# Altium footprint library Reg LDO.PcbLib: 29 footprints (part 1 of 2)
Each footprint in its own frame and in the unit in brackets; x right, y up, seen from the top. Pads: shape width x height; smd on the part's side, far side on the other; paste and mask are expansions set on the pad; w line width, h text height; cw(c..) or ccw(c..) is an arc to the next point about the centre after c.
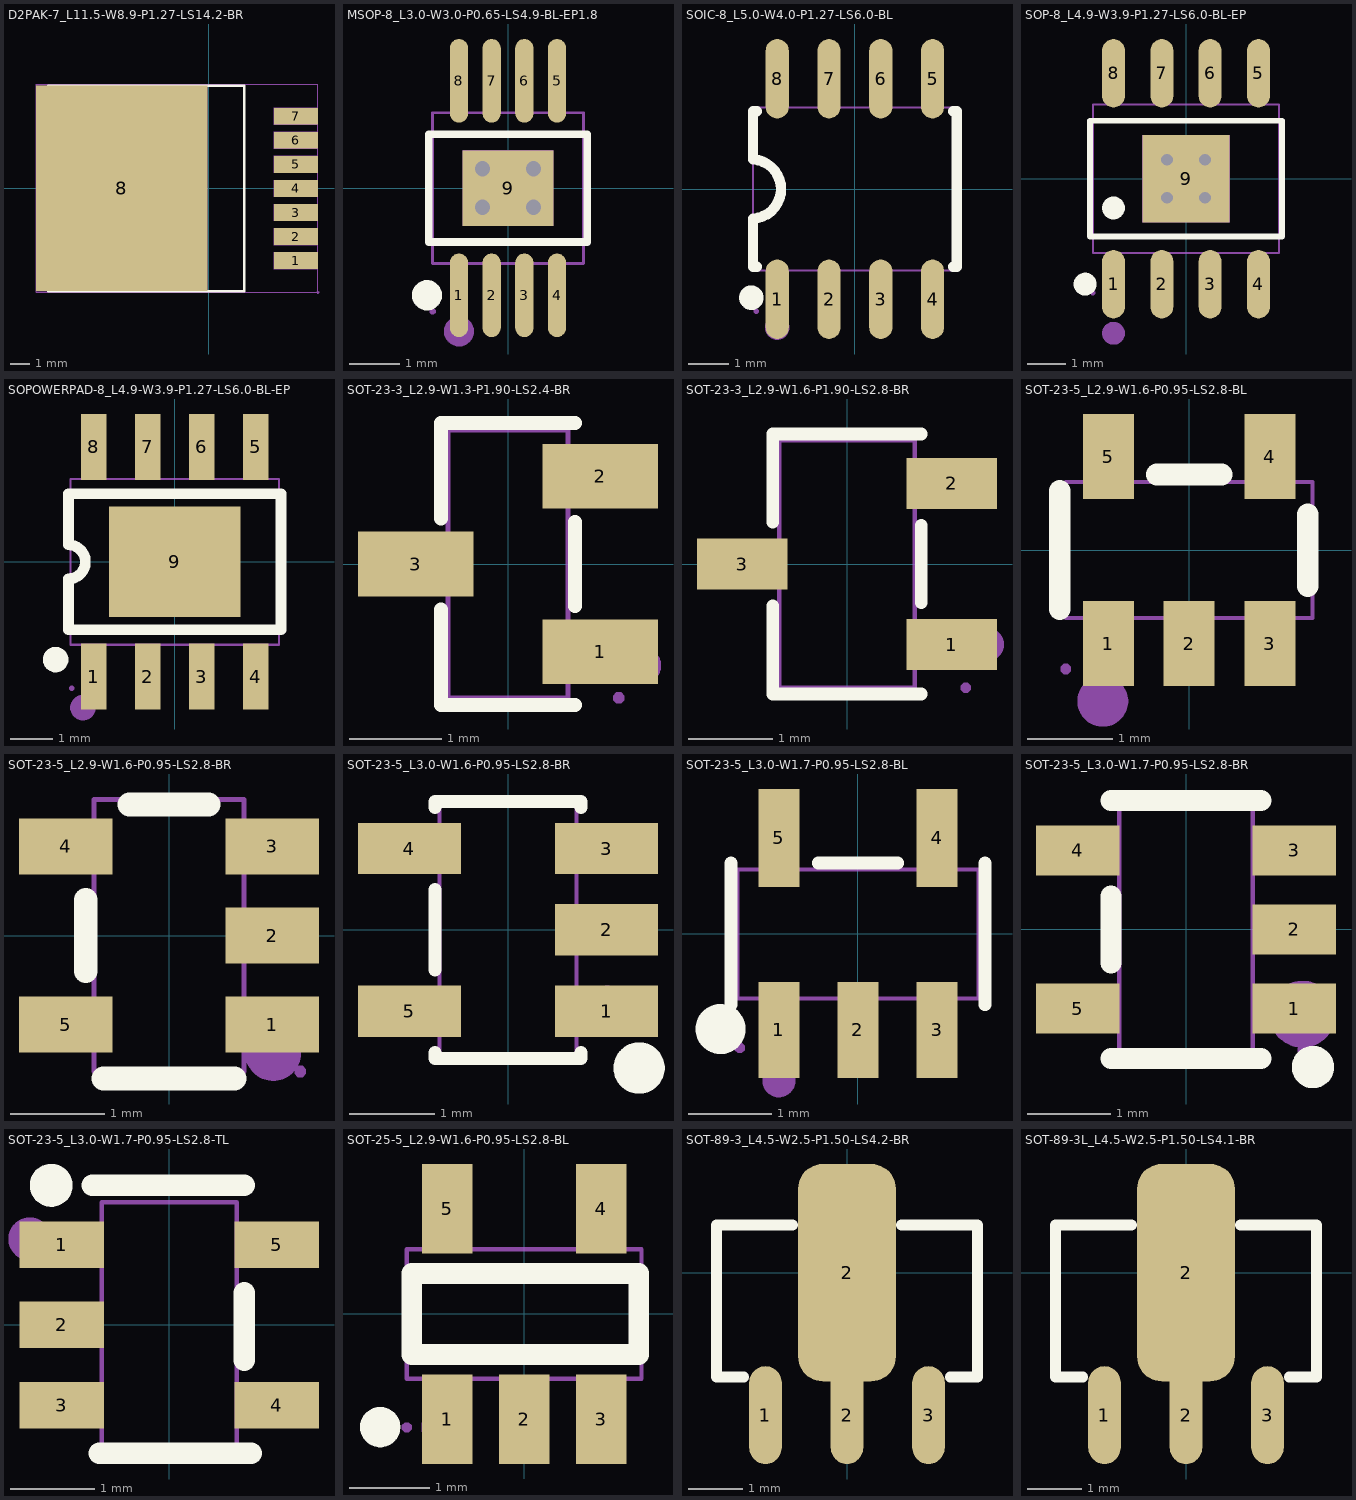
[diagram p0: the footprints below, top view; thin cyan lines are the x and y axes]

## D2PAK-7_L11.5-W8.9-P1.27-LS14.2-BR [mil]
pads (8):
  rect 91.4x35 smd paste+0 mask+2: 1(180.75,-150) 2(180.75,-100) 3(180.75,-50) 4(180.75,0) 5(180.75,50) 6(180.75,100) 7(180.75,150)
  rect 355.6x426.7 smd paste+0 mask+2: 8(-180.75,0)
Top Overlay:
  lines w5.08: -333.15,-213.4 73.25,-213.4 73.25,213.4 -333.15,213.4
Mechanical 15:
  region: 228.81,-215.94 228.81,-214.96 227.43,-213.58 225.47,-213.58 224.09,-214.96 224.09,-215.94 224.09,-216.92 225.47,-218.3 227.43,-218.3 228.81,-216.92 228.81,-215.94
  region: 135.05,-117.5 135.05,-82.5 226.45,-82.5 226.45,-117.5
  region: -358.55,-213.35 -358.55,213.35 -2.95,213.35 -2.95,-213.35
  region: 135.05,-17.5 135.05,17.5 226.45,17.5 226.45,-17.5
  region: 135.05,-67.5 135.05,-32.5 226.45,-32.5 226.45,-67.5
  region: 135.05,32.5 135.05,67.5 226.45,67.5 226.45,32.5
  region: 135.05,82.5 135.05,117.5 226.45,117.5 226.45,82.5
  region: 135.05,132.5 135.05,167.5 226.45,167.5 226.45,132.5
  region: 135.05,-167.5 135.05,-132.5 226.45,-132.5 226.45,-167.5
  lines w2: -358.55,-215.94 226.45,-215.94 226.45,215.94 -358.55,215.94 -358.55,-215.94

## MSOP-8_L3.0-W3.0-P0.65-LS4.9-BL-EP1.8 [mm]
pads (9):
  oval 0.364x1.662 smd paste+0 mask+0.051: 1(-0.975,-2.131) 2(-0.325,-2.131) 3(0.325,-2.131) 4(0.975,-2.131) 5(0.975,2.131) 6(0.325,2.131) 7(-0.325,2.131) 8(-0.975,2.131)
  rect 1.8x1.5 smd paste+0 mask+0.051: 9(0,0)
via 0.508,-0.381 diameter 0.61 hole 0.305
via -0.508,-0.381 diameter 0.61 hole 0.305
via 0.508,0.381 diameter 0.61 hole 0.305
via -0.508,0.381 diameter 0.61 hole 0.305
Top Overlay:
  circle w0.3: c-1.609,-2.131 r0.15
  lines w0.152: -1.576,-1.071 -1.576,1.071 1.576,1.071 1.576,-1.071 -1.576,-1.071
Mechanical 6:
  circle w0.3: c-0.975,-2.85 r0.15
Mechanical 15:
  region: -1.44,-2.45 -1.44,-2.425 -1.475,-2.39 -1.525,-2.39 -1.56,-2.425 -1.56,-2.45 -1.56,-2.475 -1.525,-2.51 -1.475,-2.51 -1.44,-2.475 -1.44,-2.45
  region: -1.133,-2.45 -1.133,-1.9 -0.818,-1.9 -0.818,-2.45
  region: -1.133,-1.91 -1.133,-1.49 -0.818,-1.49 -0.818,-1.91
  region: -0.482,-2.45 -0.482,-1.9 -0.167,-1.9 -0.167,-2.45
  region: -0.482,-1.91 -0.482,-1.49 -0.167,-1.49 -0.167,-1.91
  region: 0.168,-2.45 0.168,-1.9 0.483,-1.9 0.483,-2.45
  region: 0.168,-1.91 0.168,-1.49 0.483,-1.49 0.483,-1.91
  region: 0.818,-2.45 0.818,-1.9 1.133,-1.9 1.133,-2.45
  region: 0.818,-1.91 0.818,-1.49 1.133,-1.49 1.133,-1.91
  region: -1.133,1.9 -1.133,2.45 -0.818,2.45 -0.818,1.9
  region: -1.133,1.49 -1.133,1.91 -0.818,1.91 -0.818,1.49
  region: -0.482,1.9 -0.482,2.45 -0.167,2.45 -0.167,1.9
  region: -0.482,1.49 -0.482,1.91 -0.167,1.91 -0.167,1.49
  region: 0.168,1.9 0.168,2.45 0.483,2.45 0.483,1.9
  region: 0.168,1.49 0.168,1.91 0.483,1.91 0.483,1.49
  region: 0.818,1.9 0.818,2.45 1.133,2.45 1.133,1.9
  region: 0.818,1.49 0.818,1.91 1.133,1.91 1.133,1.49
  region: -0.9,-0.75 -0.9,0.75 0.9,0.75 0.9,-0.75
  lines w0.051: -1.5,-1.5 -1.5,1.5 1.5,1.5 1.5,-1.5 -1.5,-1.5

## SOIC-8_L5.0-W4.0-P1.27-LS6.0-BL [mil]
pads (8):
  oval 22.38x76.78 smd paste+0 mask+2: 1(-75,-106.5) 2(-25,-106.5) 3(25,-106.5) 4(75,-106.5) 5(75,106.5) 6(25,106.5) 7(-25,106.5) 8(-75,106.5)
Top Overlay:
  circle w11.81: c-100,-105 r5.91
  lines w10: -98.43,-28.61 ccw(c-99.99,0) -98.23,28.59 ; -98.42,-28.61 -98.42,-59.05 -98.42,-75 -94.83,-75 ; -98.42,28.59 -98.42,59.05 -98.42,75 -94.83,75 ; 94.83,-75 98.42,-75 98.42,-59.05 98.42,59.05 98.42,75 94.83,75
Mechanical 6:
  circle w11.81: c-75,-133.86 r5.91
Mechanical 15:
  region: -92.92,-118.11 -92.92,-117.13 -94.3,-115.75 -96.26,-115.75 -97.64,-117.13 -97.64,-118.11 -97.64,-119.09 -96.26,-120.47 -94.3,-120.47 -92.92,-119.09 -92.92,-118.11
  region: 66.93,76.38 66.93,85.63 83.07,85.63 83.07,76.38
  region: 66.93,85.24 66.93,118.11 83.07,118.11 83.07,85.24
  region: 16.93,76.38 16.93,85.63 33.07,85.63 33.07,76.38
  region: 16.93,85.24 16.93,118.11 33.07,118.11 33.07,85.24
  region: -33.07,76.38 -33.07,85.63 -16.93,85.63 -16.93,76.38
  region: -33.07,85.24 -33.07,118.11 -16.93,118.11 -16.93,85.24
  region: -83.07,76.38 -83.07,85.63 -66.93,85.63 -66.93,76.38
  region: -83.07,85.24 -83.07,118.11 -66.93,118.11 -66.93,85.24
  region: 66.93,-85.63 66.93,-76.38 83.07,-76.38 83.07,-85.63
  region: 66.93,-118.11 66.93,-85.24 83.07,-85.24 83.07,-118.11
  region: 16.93,-85.63 16.93,-76.38 33.07,-76.38 33.07,-85.63
  region: 16.93,-118.11 16.93,-85.24 33.07,-85.24 33.07,-118.11
  region: -33.07,-85.63 -33.07,-76.38 -16.93,-76.38 -16.93,-85.63
  region: -33.07,-118.11 -33.07,-85.24 -16.93,-85.24 -16.93,-118.11
  region: -83.07,-85.63 -83.07,-76.38 -66.93,-76.38 -66.93,-85.63
  region: -83.07,-118.11 -83.07,-85.24 -66.93,-85.24 -66.93,-118.11
  lines w2: -98.42,-78.74 -98.42,78.74 98.42,78.74 98.42,-78.74 -98.42,-78.74

## SOP-8_L4.9-W3.9-P1.27-LS6.0-BL-EP [mm]
pads (9):
  oval 0.6x1.8 smd paste+0 mask+0.051: 1(-1.905,-2.772) 2(-0.635,-2.772) 3(0.635,-2.772) 4(1.905,-2.772) 5(1.905,2.772) 6(0.635,2.772) 7(-0.635,2.772) 8(-1.905,2.772)
  rect 2.29x2.29 smd paste+0 mask+0.051: 9(0,0)
via -0.5,0.5 diameter 0.61 hole 0.305
via -0.5,-0.5 diameter 0.61 hole 0.305
via 0.5,-0.5 diameter 0.61 hole 0.305
via 0.5,0.5 diameter 0.61 hole 0.305
Top Overlay:
  circle w0.3: c-1.905,-0.769 r0.15
  circle w0.3: c-2.652,-2.772 r0.15
  lines w0.152: -2.526,-1.521 -2.526,1.521 2.526,1.521 2.526,-1.521 -2.526,-1.521
Mechanical 6:
  circle w0.3: c-1.905,-4.064 r0.15
Mechanical 15:
  region: -2.39,-3 -2.39,-2.975 -2.425,-2.94 -2.475,-2.94 -2.51,-2.975 -2.51,-3 -2.51,-3.025 -2.475,-3.06 -2.425,-3.06 -2.39,-3.025 -2.39,-3
  region: -2.115,-3 -2.115,-2.165 -1.695,-2.165 -1.695,-3
  region: -2.115,-2.175 -2.115,-1.94 -1.695,-1.94 -1.695,-2.175
  region: -0.845,-3 -0.845,-2.165 -0.425,-2.165 -0.425,-3
  region: -0.845,-2.175 -0.845,-1.94 -0.425,-1.94 -0.425,-2.175
  region: 0.425,-3 0.425,-2.165 0.845,-2.165 0.845,-3
  region: 0.425,-2.175 0.425,-1.94 0.845,-1.94 0.845,-2.175
  region: 1.695,-3 1.695,-2.165 2.115,-2.165 2.115,-3
  region: 1.695,-2.175 1.695,-1.94 2.115,-1.94 2.115,-2.175
  region: -2.115,3 -2.115,2.165 -1.695,2.165 -1.695,3
  region: -2.115,2.175 -2.115,1.94 -1.695,1.94 -1.695,2.175
  region: -0.845,3 -0.845,2.165 -0.425,2.165 -0.425,3
  region: -0.845,2.175 -0.845,1.94 -0.425,1.94 -0.425,2.175
  region: 0.425,3 0.425,2.165 0.845,2.165 0.845,3
  region: 0.425,2.175 0.425,1.94 0.845,1.94 0.845,2.175
  region: 1.695,3 1.695,2.165 2.115,2.165 2.115,3
  region: 1.695,2.175 1.695,1.94 2.115,1.94 2.115,2.175
  region: -1.145,-1.145 -1.145,1.145 1.145,1.145 1.145,-1.145
  lines w0.051: -2.45,-1.95 -2.45,1.95 2.45,1.95 2.45,-1.95 -2.45,-1.95

## SOPOWERPAD-8_L4.9-W3.9-P1.27-LS6.0-BL-EP [mm]
pads (9):
  rect 0.6x1.55 smd paste+0 mask+0.051: 1(-1.905,-2.7) 2(-0.635,-2.7) 3(0.635,-2.7) 4(1.905,-2.7) 5(1.905,2.7) 6(0.635,2.7) 7(-0.635,2.7) 8(-1.905,2.7)
  rect 3.1x2.6 smd paste+0 mask+0.051: 9(0,0)
Top Overlay:
  circle w0.3: c-2.802,-2.3 r0.15
  lines w0.254: -2.501,-1.6 -2.501,-0.4 ccw(c-2.502,0) -2.502,0.4 -2.501,1.6 2.498,1.6 2.498,-1.6 -2.501,-1.6
Mechanical 6:
  circle w0.3: c-2.159,-3.429 r0.15
Mechanical 15:
  region: -2.36,-2.97 -2.36,-2.945 -2.395,-2.91 -2.445,-2.91 -2.48,-2.945 -2.48,-2.97 -2.48,-2.995 -2.445,-3.03 -2.395,-3.03 -2.36,-2.995 -2.36,-2.97
  region: -2.11,1.94 -2.11,2.175 -1.7,2.175 -1.7,1.94
  region: -2.11,2.165 -2.11,3 -1.7,3 -1.7,2.165
  region: -0.84,1.94 -0.84,2.175 -0.43,2.175 -0.43,1.94
  region: -0.84,2.165 -0.84,3 -0.43,3 -0.43,2.165
  region: 0.43,1.94 0.43,2.175 0.84,2.175 0.84,1.94
  region: 0.43,2.165 0.43,3 0.84,3 0.84,2.165
  region: 1.7,1.94 1.7,2.175 2.11,2.175 2.11,1.94
  region: 1.7,2.165 1.7,3 2.11,3 2.11,2.165
  region: 1.7,-2.175 1.7,-1.94 2.11,-1.94 2.11,-2.175
  region: 1.7,-3 1.7,-2.165 2.11,-2.165 2.11,-3
  region: 0.43,-2.175 0.43,-1.94 0.84,-1.94 0.84,-2.175
  region: 0.43,-3 0.43,-2.165 0.84,-2.165 0.84,-3
  region: -0.84,-2.175 -0.84,-1.94 -0.43,-1.94 -0.43,-2.175
  region: -0.84,-3 -0.84,-2.165 -0.43,-2.165 -0.43,-3
  region: -2.11,-2.175 -2.11,-1.94 -1.7,-1.94 -1.7,-2.175
  region: -2.11,-3 -2.11,-2.165 -1.7,-2.165 -1.7,-3
  region: -1.437,-1.012 -1.437,1.012 1.437,1.012 1.437,-1.012
  lines w0.051: -2.45,-1.95 2.45,-1.95 2.45,1.95 -2.45,1.95 -2.45,-1.95

## SOT-23-3_L2.9-W1.3-P1.90-LS2.4-BR [mm]
pads (3):
  rect 1.25x0.7 smd paste+0 mask+0.051: 1(1,-0.95) 2(1,0.95) 3(-1,0)
Top Overlay:
  lines w0.152: -0.726,-0.495 -0.726,-1.526 0.726,-1.526 ; -0.726,0.495 -0.726,1.526 0.726,1.526 ; 0.726,-0.455 0.726,0.455
Mechanical 6:
  circle w0.2: c1.46,-1.1 r0.1
Mechanical 15:
  region: 1.26,-1.45 1.26,-1.425 1.225,-1.39 1.175,-1.39 1.14,-1.425 1.14,-1.45 1.14,-1.475 1.175,-1.51 1.225,-1.51 1.26,-1.475 1.26,-1.45
  region: 0.64,0.735 0.64,1.165 0.91,1.165 0.91,0.735
  region: 0.9,0.735 0.9,1.165 1.2,1.165 1.2,0.735
  region: 0.64,-1.165 0.64,-0.735 0.91,-0.735 0.91,-1.165
  region: 0.9,-1.165 0.9,-0.735 1.2,-0.735 1.2,-1.165
  region: -0.91,-0.215 -0.91,0.215 -0.64,0.215 -0.64,-0.215
  region: -1.2,-0.215 -1.2,0.215 -0.9,0.215 -0.9,-0.215
  lines w0.051: -0.65,-1.45 -0.65,1.45 0.65,1.45 0.65,-1.45 -0.65,-1.45

## SOT-23-3_L2.9-W1.6-P1.90-LS2.8-BR [mm]
pads (3):
  rect 1.07x0.6 smd paste+0 mask+0.051: 1(1.235,-0.95) 2(1.235,0.95) 3(-1.235,0)
Top Overlay:
  lines w0.152: -0.876,-0.495 -0.876,-1.536 0.876,-1.536 ; -0.876,0.495 -0.876,1.536 0.876,1.536 ; 0.876,-0.455 0.876,0.455
Mechanical 6:
  circle w0.2: c1.651,-0.95 r0.1
Mechanical 15:
  region: 1.46,-1.46 1.46,-1.435 1.425,-1.4 1.375,-1.4 1.34,-1.435 1.34,-1.46 1.34,-1.485 1.375,-1.52 1.425,-1.52 1.46,-1.485 1.46,-1.46
  region: 0.95,-1.15 0.95,-0.75 1.4,-0.75 1.4,-1.15
  region: 0.79,-1.15 0.79,-0.75 0.96,-0.75 0.96,-1.15
  region: 0.95,0.75 0.95,1.15 1.4,1.15 1.4,0.75
  region: 0.79,0.75 0.79,1.15 0.96,1.15 0.96,0.75
  region: -0.95,-0.2 -0.95,0.2 -1.4,0.2 -1.4,-0.2
  region: -0.96,-0.2 -0.96,0.2 -0.79,0.2 -0.79,-0.2
  lines w0.051: -0.8,-1.46 -0.8,1.46 0.8,1.46 0.8,-1.46 -0.8,-1.46

## SOT-23-5_L2.9-W1.6-P0.95-LS2.8-BL [mm]
pads (5):
  rect 0.6x1 smd paste+0 mask+0.05: 1(-0.95,-1.1) 2(0,-1.1) 3(0.95,-1.1) 4(0.95,1.1) 5(-0.95,1.1)
Top Overlay:
  lines w0.254: -1.524,-0.699 -1.524,0.699 ; -0.381,0.889 0.381,0.889 ; 1.397,-0.422 1.397,0.422
Mechanical 6:
  circle w0.3: c-1.016,-1.778 r0.15
Mechanical 15:
  region: -1.39,-1.4 -1.39,-1.375 -1.425,-1.34 -1.475,-1.34 -1.51,-1.375 -1.51,-1.4 -1.51,-1.425 -1.475,-1.46 -1.425,-1.46 -1.39,-1.425 -1.39,-1.4
  region: -0.2,-0.96 -0.2,-0.79 0.2,-0.79 0.2,-0.96
  region: -0.2,-1.4 -0.2,-0.95 0.2,-0.95 0.2,-1.4
  region: 0.75,-0.96 0.75,-0.79 1.15,-0.79 1.15,-0.96
  region: 0.75,-1.4 0.75,-0.95 1.15,-0.95 1.15,-1.4
  region: -1.15,-0.96 -1.15,-0.79 -0.75,-0.79 -0.75,-0.96
  region: -1.15,-1.4 -1.15,-0.95 -0.75,-0.95 -0.75,-1.4
  region: 0.75,0.79 0.75,0.96 1.15,0.96 1.15,0.79
  region: 0.75,0.95 0.75,1.4 1.15,1.4 1.15,0.95
  region: -1.15,0.79 -1.15,0.96 -0.75,0.96 -0.75,0.79
  region: -1.15,0.95 -1.15,1.4 -0.75,1.4 -0.75,0.95
  lines w0.051: -1.45,-0.8 -1.45,0.8 1.45,0.8 1.45,-0.8 -1.45,-0.8

## SOT-23-5_L2.9-W1.6-P0.95-LS2.8-BR [mm]
pads (5):
  rect 1x0.6 smd paste+0 mask+0.05: 1(1.1,-0.95) 2(1.1,0) 3(1.1,0.95) 4(-1.1,0.95) 5(-1.1,-0.95)
Top Overlay:
  lines w0.254: -0.889,-0.381 -0.889,0.381 ; -0.699,-1.524 0.698,-1.524 ; -0.422,1.397 0.422,1.397
Mechanical 6:
  circle w0.3: c1.11,-1.25 r0.15
Mechanical 15:
  region: 1.46,-1.45 1.46,-1.425 1.425,-1.39 1.375,-1.39 1.34,-1.425 1.34,-1.45 1.34,-1.475 1.375,-1.51 1.425,-1.51 1.46,-1.475 1.46,-1.45
  region: -0.95,-1.15 -1.4,-1.15 -1.4,-0.75 -0.95,-0.75
  region: -0.79,-1.15 -0.96,-1.15 -0.96,-0.75 -0.79,-0.75
  region: -0.95,0.75 -1.4,0.75 -1.4,1.15 -0.95,1.15
  region: -0.79,0.75 -0.96,0.75 -0.96,1.15 -0.79,1.15
  region: 1.4,-1.15 0.95,-1.15 0.95,-0.75 1.4,-0.75
  region: 0.96,-1.15 0.79,-1.15 0.79,-0.75 0.96,-0.75
  region: 1.4,0.75 0.95,0.75 0.95,1.15 1.4,1.15
  region: 0.96,0.75 0.79,0.75 0.79,1.15 0.96,1.15
  region: 1.4,-0.2 0.95,-0.2 0.95,0.2 1.4,0.2
  region: 0.96,-0.2 0.79,-0.2 0.79,0.2 0.96,0.2
  lines w0.051: -0.8,-1.45 0.8,-1.45 0.8,1.45 -0.8,1.45 -0.8,-1.45

## SOT-23-5_L3.0-W1.6-P0.95-LS2.8-BR [mm]
pads (5):
  rect 1.2x0.6 smd paste+0 mask+0.05: 1(1.15,-0.95) 2(1.15,0) 3(1.15,0.95) 4(-1.15,0.95) 5(-1.15,-0.95)
Top Overlay:
  circle w0.3: c1.529,-1.611 r0.15
  lines w0.152: -0.85,-1.43 -0.85,-1.5 0.85,-1.5 0.85,-1.43 ; -0.85,-0.47 -0.85,0.47 ; -0.85,1.43 -0.85,1.5 0.85,1.5 0.85,1.43
Mechanical 6:
  circle w0.3: c1.15,-0.95 r0.15
Mechanical 15:
  region: 1.46,-1.45 1.46,-1.425 1.425,-1.39 1.375,-1.39 1.34,-1.425 1.34,-1.45 1.34,-1.475 1.375,-1.51 1.425,-1.51 1.46,-1.475 1.46,-1.45
  region: 0.79,0.75 0.79,1.15 0.96,1.15 0.96,0.75
  region: 0.95,0.75 0.95,1.15 1.4,1.15 1.4,0.75
  region: 0.79,-0.2 0.79,0.2 0.96,0.2 0.96,-0.2
  region: 0.95,-0.2 0.95,0.2 1.4,0.2 1.4,-0.2
  region: 0.79,-1.15 0.79,-0.75 0.96,-0.75 0.96,-1.15
  region: 0.95,-1.15 0.95,-0.75 1.4,-0.75 1.4,-1.15
  region: -0.96,-1.15 -0.96,-0.75 -0.79,-0.75 -0.79,-1.15
  region: -1.4,-1.15 -1.4,-0.75 -0.95,-0.75 -0.95,-1.15
  region: -0.96,0.75 -0.96,1.15 -0.79,1.15 -0.79,0.75
  region: -1.4,0.75 -1.4,1.15 -0.95,1.15 -0.95,0.75
  lines w0.051: -0.8,-1.45 -0.8,1.45 0.8,1.45 0.8,-1.45 -0.8,-1.45

## SOT-23-5_L3.0-W1.7-P0.95-LS2.8-BL [mm]
pads (5):
  rect 0.49x1.157 smd paste+0 mask+0.051: 1(-0.95,-1.154) 2(0,-1.154) 3(0.95,-1.154)
  rect 0.49x1.175 smd paste+0 mask+0.051: 4(0.95,1.154) 5(-0.95,1.154)
Top Overlay:
  circle w0.3: c-1.651,-1.143 r0.15
  lines w0.152: -1.526,-0.851 -1.526,0.851 ; -0.476,0.851 0.476,0.851 ; 1.526,-0.851 1.526,0.851
Mechanical 6:
  circle w0.2: c-0.95,-1.763 r0.1
Mechanical 15:
  region: -1.36,-1.37 -1.36,-1.345 -1.395,-1.31 -1.445,-1.31 -1.48,-1.345 -1.48,-1.37 -1.48,-1.395 -1.445,-1.43 -1.395,-1.43 -1.36,-1.395 -1.36,-1.37
  region: -1.125,0.74 -1.125,1.01 -0.775,1.01 -0.775,0.74
  region: -1.125,1 -1.125,1.4 -0.775,1.4 -0.775,1
  region: 0.775,0.74 0.775,1.01 1.125,1.01 1.125,0.74
  region: 0.775,1 0.775,1.4 1.125,1.4 1.125,1
  region: 0.775,-1.01 0.775,-0.74 1.125,-0.74 1.125,-1.01
  region: 0.775,-1.4 0.775,-1 1.125,-1 1.125,-1.4
  region: -0.175,-1.01 -0.175,-0.74 0.175,-0.74 0.175,-1.01
  region: -0.175,-1.4 -0.175,-1 0.175,-1 0.175,-1.4
  region: -1.125,-1.01 -1.125,-0.74 -0.775,-0.74 -0.775,-1.01
  region: -1.125,-1.4 -1.125,-1 -0.775,-1 -0.775,-1.4
  lines w0.051: -1.45,-0.775 1.45,-0.775 1.45,0.775 -1.45,0.775 -1.45,-0.775

## SOT-23-5_L3.0-W1.7-P0.95-LS2.8-BR [mm]
pads (5):
  rect 1x0.6 smd mask+0.051: 1(1.3,-0.95) 2(1.3,0) 3(1.3,0.95) 4(-1.3,0.95) 5(-1.3,-0.95)
Top Overlay:
  circle w0.254: c1.524,-1.651 r0.127
  lines w0.254: -0.9,-1.55 0.9,-1.55 ; -0.9,-0.4 -0.9,0.4 ; -0.9,1.55 0.9,1.55
Mechanical 6:
  circle w0.4: c1.397,-1.016 r0.2
Mechanical 15:
  region: 1.46,-1.45 1.46,-1.425 1.425,-1.39 1.375,-1.39 1.34,-1.425 1.34,-1.45 1.34,-1.475 1.375,-1.51 1.425,-1.51 1.46,-1.475 1.46,-1.45
  region: 0.79,-1.15 0.79,-0.75 0.96,-0.75 0.96,-1.15
  region: 0.95,-1.15 0.95,-0.75 1.4,-0.75 1.4,-1.15
  region: 0.79,-0.2 0.79,0.2 0.96,0.2 0.96,-0.2
  region: 0.95,-0.2 0.95,0.2 1.4,0.2 1.4,-0.2
  region: 0.79,0.75 0.79,1.15 0.96,1.15 0.96,0.75
  region: 0.95,0.75 0.95,1.15 1.4,1.15 1.4,0.75
  region: -0.96,0.75 -0.96,1.15 -0.79,1.15 -0.79,0.75
  region: -1.4,0.75 -1.4,1.15 -0.95,1.15 -0.95,0.75
  region: -0.96,-1.15 -0.96,-0.75 -0.79,-0.75 -0.79,-1.15
  region: -1.4,-1.15 -1.4,-0.75 -0.95,-0.75 -0.95,-1.15
  lines w0.051: -0.8,-1.45 0.8,-1.45 0.8,1.45 -0.8,1.45 -0.8,-1.45

## SOT-23-5_L3.0-W1.7-P0.95-LS2.8-TL [mm]
pads (5):
  rect 1x0.55 smd mask+0.051: 1(-1.271,0.95) 2(-1.271,0) 3(-1.271,-0.95) 4(1.271,-0.95) 5(1.271,0.95)
Top Overlay:
  circle w0.254: c-1.397,1.651 r0.127
  lines w0.254: -0.911,1.651 0.889,1.651 ; -0.83,-1.522 0.97,-1.522 ; 0.889,-0.419 0.889,0.381
Mechanical 6:
  circle w0.254: c-1.651,1.016 r0.127
Mechanical 15:
  region: -0.96,1.15 -0.79,1.15 -0.79,0.75 -0.96,0.75
  region: -1.4,1.15 -0.95,1.15 -0.95,0.75 -1.4,0.75
  region: -0.96,0.2 -0.79,0.2 -0.79,-0.2 -0.96,-0.2
  region: -1.4,0.2 -0.95,0.2 -0.95,-0.2 -1.4,-0.2
  region: -0.96,-0.75 -0.79,-0.75 -0.79,-1.15 -0.96,-1.15
  region: -1.4,-0.75 -0.95,-0.75 -0.95,-1.15 -1.4,-1.15
  region: 0.79,-0.75 0.96,-0.75 0.96,-1.15 0.79,-1.15
  region: 0.95,-0.75 1.4,-0.75 1.4,-1.15 0.95,-1.15
  region: 0.79,1.15 0.96,1.15 0.96,0.75 0.79,0.75
  region: 0.95,1.15 1.4,1.15 1.4,0.75 0.95,0.75
  region: -1.257,1.537 -1.257,1.561 -1.293,1.597 -1.342,1.597 -1.377,1.561 -1.377,1.537 -1.377,1.512 -1.342,1.477 -1.293,1.477 -1.257,1.512 -1.257,1.537
  lines w0.051: -0.8,-1.45 0.8,-1.45 0.8,1.45 -0.8,1.45 -0.8,-1.45

## SOT-25-5_L2.9-W1.6-P0.95-LS2.8-BL [mil]
pads (5):
  rect 24.5x43.5 smd paste+0 mask+2: 1(-37.39,-51.18) 2(-0.02,-51.18) 3(37.39,-51.18) 4(37.39,51.18) 5(-37.39,51.18)
Top Overlay:
  lines w9.8: -70.06,-59.9 cw(c-70.01,-55) -69.96,-59.9
  lines w10: -54.61,-19.7 55.59,-19.7 55.59,19.7 -54.61,19.7 -54.61,-19.7
Mechanical 6:
  circle w10: c-40.01,-55 r5
Mechanical 15:
  region: -54.74,-55.12 -54.74,-54.14 -56.12,-52.76 -58.08,-52.76 -59.46,-54.14 -59.46,-55.12 -59.46,-56.1 -58.08,-57.48 -56.12,-57.48 -54.74,-56.1 -54.74,-55.12
  region: 29.5,-47.64 29.5,-31.1 45.24,-31.1 45.24,-47.64
  region: 29.5,-55.12 29.5,-47.24 45.24,-47.24 45.24,-55.12
  region: -7.9,-47.64 -7.9,-31.1 7.85,-31.1 7.85,-47.64
  region: -7.9,-55.12 -7.9,-47.24 7.85,-47.24 7.85,-55.12
  region: -45.27,-47.64 -45.27,-31.1 -29.52,-31.1 -29.52,-47.64
  region: -45.27,-55.12 -45.27,-47.24 -29.52,-47.24 -29.52,-55.12
  region: -45.27,31.1 -45.27,47.64 -29.52,47.64 -29.52,31.1
  region: -45.27,47.24 -45.27,55.12 -29.52,55.12 -29.52,47.24
  region: 29.5,31.1 29.5,47.64 45.24,47.64 45.24,31.1
  region: 29.5,47.24 29.5,55.12 45.24,55.12 45.24,47.24
  lines w2: -57.1,-31.5 -57.1,31.5 57.08,31.5 57.08,-31.5 -57.1,-31.5

## SOT-89-3_L4.5-W2.5-P1.50-LS4.2-BR [mm]
pads (4):
  oval 0.6x1.8 smd: 1(-1.5,-2.621) 2(0,-2.621) 3(1.5,-2.621)
  rrect50% 1.8x4 smd paste-5: 2(0,0)
Top Overlay:
  lines w0.2: -1.9,-1.921 -2.4,-1.921 -2.4,0.879 -1,0.879 ; 1,0.879 2.4,0.879 2.4,-1.921 1.9,-1.921
Top Paste:
  rectangle: -0.7,0.379 0.7,1.779
  rectangle: -0.7,-1.421 0.7,-0.021
3D body "SW3dPS-SOT89.STEP": height 1.59, standoff -0.02, extent -2.3,-2.721 2.3,1.529

## SOT-89-3L_L4.5-W2.5-P1.50-LS4.1-BR [mm]
pads (4):
  oval 0.6x1.8 smd: 1(-1.5,-2.621) 2(0,-2.621) 3(1.5,-2.621)
  rrect50% 1.8x4 smd paste-5: 2(0,0)
Top Overlay:
  lines w0.2: -1.9,-1.921 -2.4,-1.921 -2.4,0.879 -1,0.879 ; 1,0.879 2.4,0.879 2.4,-1.921 1.9,-1.921
Top Paste:
  rectangle: -0.7,-1.421 0.7,-0.021
  rectangle: -0.7,0.379 0.7,1.779
3D body "SW3dPS-SOT89.STEP": height 1.59, standoff -0.02, extent -2.3,-2.721 2.3,1.529